# EAGLE library part MAX31855KASA+T (library temp_sens_proj)
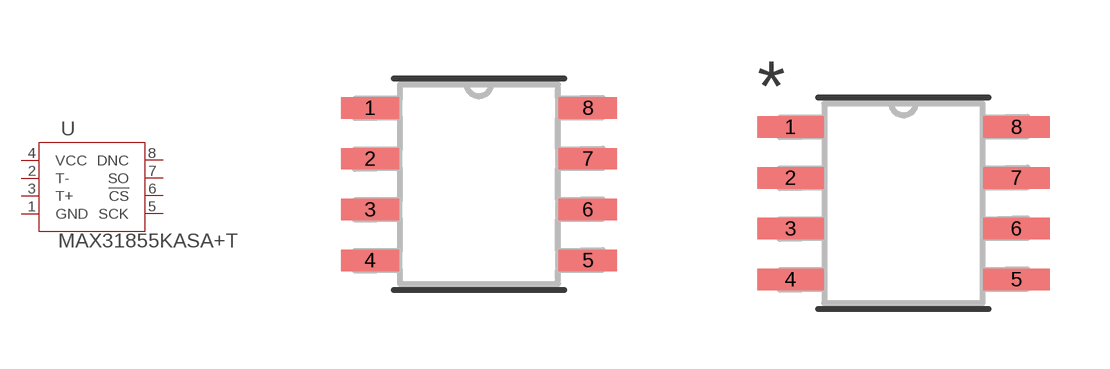
[diagram p1: symbol with the pads of 21-0041B_8_MXM; footprints 21-0041B_8_MXM, 21-0041B_8_MXM-M]

Designator prefix U

## MAX31855KASA+T (COPYRIGHT: Copyright (C) 2023 Ultra Librarian. All rights reserved.; MANUFACTURER_PART_NUMBER: MAX31855KASA+T; MFR_NAME: Analog Devices / Maxim Integrated)  [21-0041B_8_MXM]
1  GND  pwr
2  T-  in
3  T+  in
4  VCC  pwr
5  SCK  in
6  !CS  pas
7  SO  out
8  DNC  nc

## MAX31855KASA+T21-0041B_8_MXM-M (COPYRIGHT: Copyright (C) 2023 Ultra Librarian. All rights reserved.; MANUFACTURER_PART_NUMBER: MAX31855KASA+T; MFR_NAME: Analog Devices / Maxim Integrated)  [21-0041B_8_MXM-M]
Pads as for 21-0041B_8_MXM

## MAX31855KASA+T21-0041B_8_MXM-L (COPYRIGHT: Copyright (C) 2023 Ultra Librarian. All rights reserved.; MANUFACTURER_PART_NUMBER: MAX31855KASA+T; MFR_NAME: Analog Devices / Maxim Integrated)  [21-0041B_8_MXM-L]
Pads as for 21-0041B_8_MXM

## Footprint 21-0041B_8_MXM (pad centres in mm)
smd 1.46 x 0.533: 1 -2.724,1.905; 2 -2.724,0.635; 3 -2.724,-0.635; 4 -2.724,-1.905; 5 2.724,-1.905; 6 2.724,-0.635; 7 2.724,0.635; 8 2.724,1.905

## Footprint 21-0041B_8_MXM-M (pad centres in mm)
smd 1.664 x 0.533: 1 -2.826,1.905; 2 -2.826,0.635; 3 -2.826,-0.635; 4 -2.826,-1.905; 5 2.826,-1.905; 6 2.826,-0.635; 7 2.826,0.635; 8 2.826,1.905

## Footprint 21-0041B_8_MXM-L (pad centres in mm)
smd 1.257 x 0.483: 1 -2.623,1.905; 2 -2.623,0.635; 3 -2.623,-0.635; 4 -2.623,-1.905; 5 2.623,-1.905; 6 2.623,-0.635; 7 2.623,0.635; 8 2.623,1.905